# Altium footprint library SparkFun-Connectors.PCBLIB: 327 footprints (part 4 of 21)
Each footprint in its own frame and in the unit in brackets; x right, y up, seen from the top. Pads: shape width x height; smd on the part's side, far side on the other; paste and mask are expansions set on the pad; w line width, h text height; cw(c..) or ccw(c..) is an arc to the next point about the centre after c.
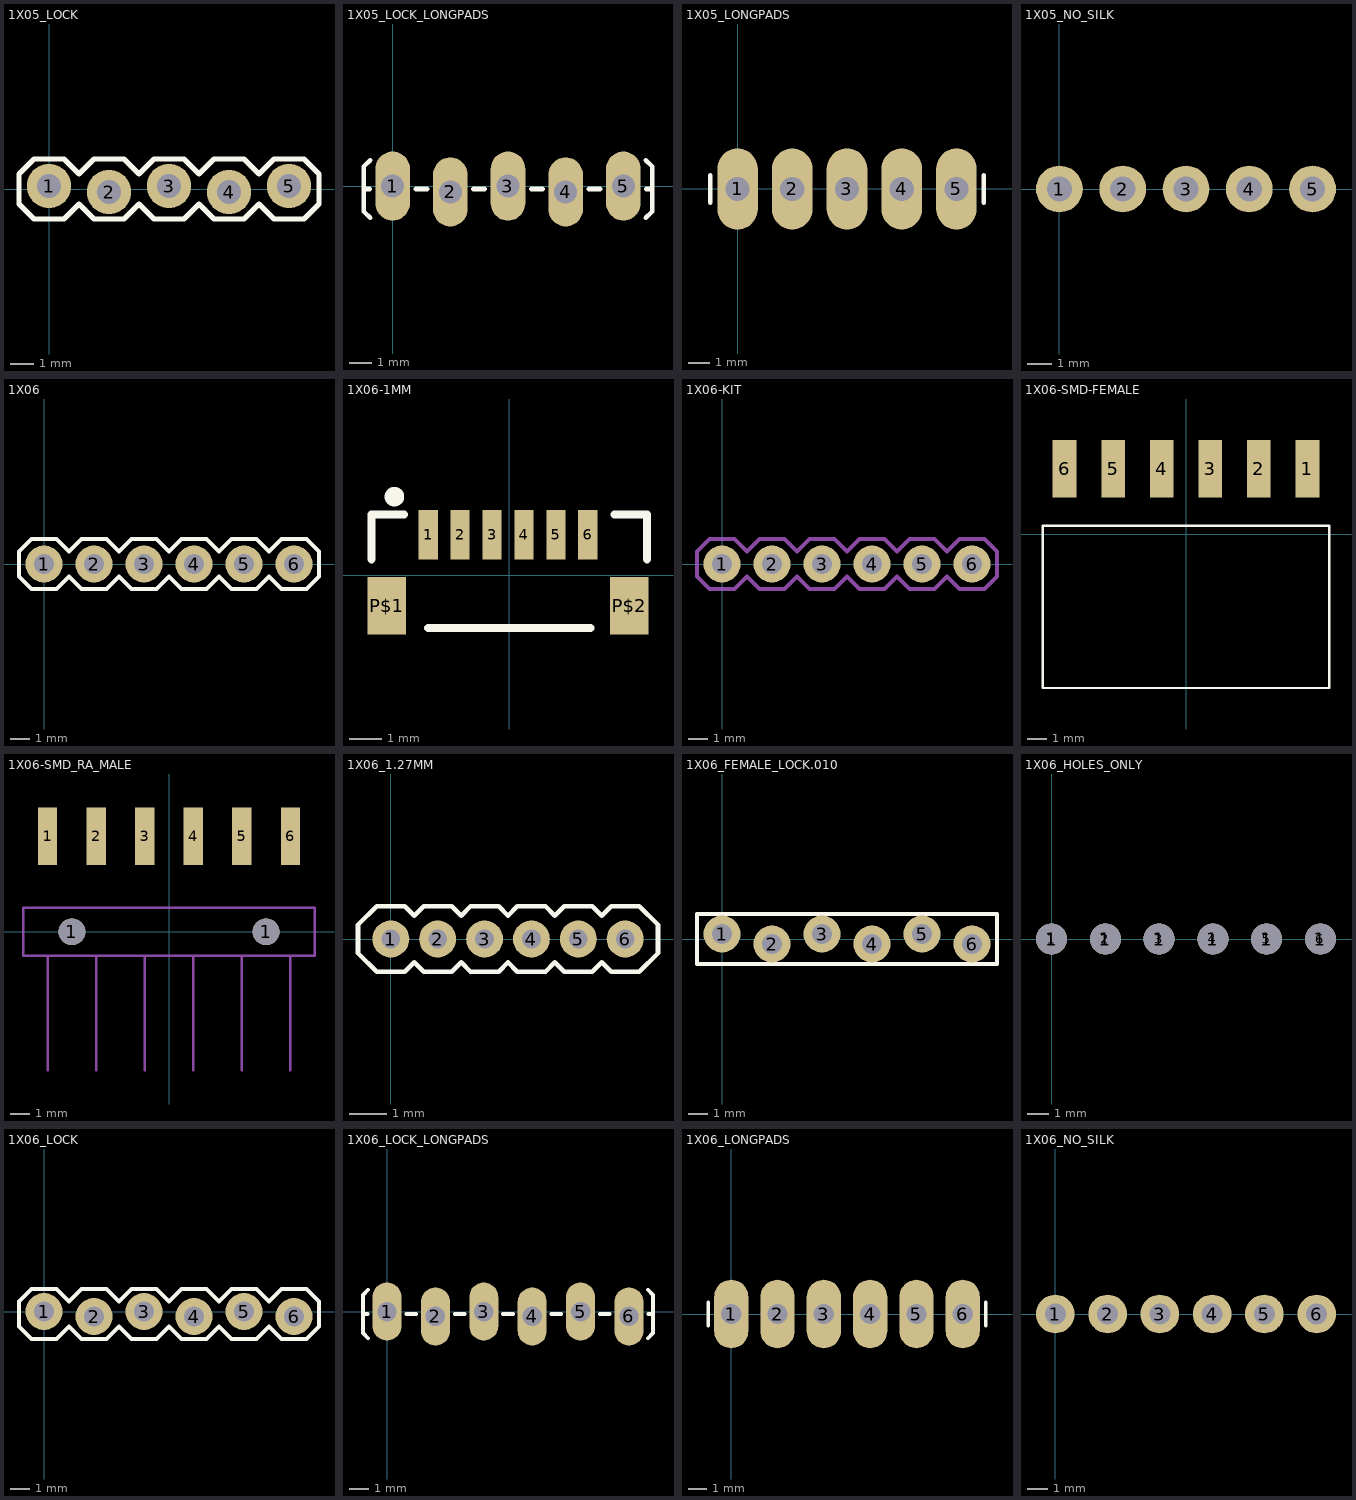
[diagram p3: the footprints below, top view; thin cyan lines are the x and y axes]

## 1X05_LOCK [mil]
pads (5):
  round 74 hole 40: 1(0,5) 2(100,-5) 3(200,5) 4(300,-5) 5(400,5)
Top Overlay:
  lines w8: -50,-25 -50,25 -25,50 25,50 50,25 75,50 125,50 150,25 175,50 225,50 250,25 275,50 325,50 350,25 375,50 425,50 450,25 450,-25 425,-50 375,-50 350,-25 325,-50 275,-50 250,-25 225,-50 175,-50 150,-25 125,-50 75,-50 50,-25 25,-50 -25,-50 -50,-25
Mechanical 16:
  rectangle: 390,-10 410,10
  rectangle: 290,-10 310,10
  rectangle: 190,-10 210,10
  rectangle: 90,-10 110,10
  rectangle: -10,-10 10,10

## 1X05_LOCK_LONGPADS [mil]
pads (5):
  oval 60x120 hole 40: 1(0,0) 2(100,-10) 3(200,0) 4(300,-10) 5(400,0)
Top Overlay:
  lines w8: -40,-5 -50,-5 ; -39,-55 -50,-44 -50,-5 ; -39,45 -50,34 -50,-5 ; 40,-5 60,-5 ; 140,-5 160,-5 ; 240,-5 260,-5 ; 340,-5 360,-5 ; 439,-55 450,-44 450,-5 ; 439,45 450,34 450,-5 ; 440,-5 450,-5
Mechanical 16:
  rectangle: -11.5,-16.5 11.5,6.5
  rectangle: 88.5,-16.5 111.5,6.5
  rectangle: 188.5,-16.5 211.5,6.5
  region: 311.5,-16.5 311.5,6.5 288.5,6.5 288.5,-16.5
  rectangle: 388.5,-16.5 411.5,6.5

## 1X05_LONGPADS [mil]
pads (5):
  oval 74x148 hole 44: 1(0,0) 2(100,0) 3(200,0) 4(300,0) 5(400,0)
Top Overlay:
  lines w8: -50,-25 -50,25 ; 450,-25 450,25
Mechanical 16:
  rectangle: 390,-10 410,10
  rectangle: 290,-10 310,10
  rectangle: 190,-10 210,10
  rectangle: 90,-10 110,10
  rectangle: -10,-10 10,10

## 1X05_NO_SILK [mil]
pads (5):
  round 74 hole 40: 1(0,0) 2(100,0) 3(200,0) 4(300,0) 5(400,0)
Mechanical 16:
  rectangle: 390,-10 410,10
  rectangle: 290,-10 310,10
  rectangle: 190,-10 210,10
  rectangle: 90,-10 110,10
  rectangle: -10,-10 10,10

## 1X06 [mil]
pads (6):
  round 74 hole 40: 1(0,0) 2(100,0) 3(200,0) 4(300,0) 5(400,0) 6(500,0)
Top Overlay:
  lines w8: -50,-25 -50,25 -25,50 25,50 50,25 75,50 125,50 150,25 175,50 225,50 250,25 275,50 325,50 350,25 375,50 425,50 450,25 475,50 525,50 550,25 550,-25 525,-50 475,-50 450,-25 425,-50 375,-50 350,-25 325,-50 275,-50 250,-25 225,-50 175,-50 150,-25 125,-50 75,-50 50,-25 25,-50 -25,-50 -50,-25
Mechanical 16:
  rectangle: 490,-10 510,10
  rectangle: 390,-10 410,10
  rectangle: 290,-10 310,10
  rectangle: 190,-10 210,10
  rectangle: 90,-10 110,10
  rectangle: -10,-10 10,10

## 1X06-1MM [mm]
pads (8):
  rect 0.6x1.55 smd: 1(-2.54,1.27) 2(-1.54,1.27) 3(-0.54,1.27) 4(0.46,1.27) 5(1.46,1.27) 6(2.46,1.27)
  rect 1.2x1.8 smd: P$1(-3.84,-0.955) P$2(3.76,-0.955)
Top Overlay:
  circle w0.406: c-3.6,2.47 r0.105
  lines w0.254: -4.318,0.508 -4.318,1.905 -3.302,1.905 ; -2.54,-1.651 2.54,-1.651 ; 3.302,1.905 4.318,1.905 4.318,0.508

## 1X06-KIT [mil]
pads (6):
  round 74 hole 40: 1(0,0) 2(100,0) 3(200,0) 4(300,0) 5(400,0) 6(500,0)
Top Solder:
  region: 0,0 10,0 10,10 0,10
  region: 0,0 10,0 10,10 0,10
  region: 0,0 10,0 10,10 0,10
  region: 0,0 10,0 10,10 0,10
  region: 0,0 10,0 10,10 0,10
  region: 0,0 10,0 10,10 0,10
Bottom Solder:
  region: 0,0 10,0 10,10 0,10
  region: 0,0 10,0 10,10 0,10
  region: 0,0 10,0 10,10 0,10
  region: 0,0 10,0 10,10 0,10
  region: 0,0 10,0 10,10 0,10
  region: 0,0 10,0 10,10 0,10
Mechanical 16:
  rectangle: 490,-10 510,10
  rectangle: 390,-10 410,10
  rectangle: 290,-10 310,10
  rectangle: 190,-10 210,10
  rectangle: 90,-10 110,10
  rectangle: -10,-10 10,10
  lines w8: -50,-25 -50,25 -25,50 25,50 50,25 75,50 125,50 150,25 175,50 225,50 250,25 275,50 325,50 350,25 375,50 425,50 450,25 475,50 525,50 550,25 550,-25 525,-50 475,-50 450,-25 425,-50 375,-50 350,-25 325,-50 275,-50 250,-25 225,-50 175,-50 150,-25 125,-50 75,-50 50,-25 25,-50 -25,-50 -50,-25

## 1X06-SMD-FEMALE [mm]
pads (6):
  rect 1.25x3 smd: 1(6.35,3.425) 2(3.81,3.425) 3(1.27,3.425) 4(-1.27,3.425) 5(-3.81,3.425) 6(-6.35,3.425)
Top Overlay:
  lines w0.127: -7.5,-8.05 -7.5,0.45 7.5,0.45 7.5,-8.05 -7.5,-8.05

## 1X06-SMD_RA_MALE [mm]
pads (8):
  rect 1x3 smd: 1(-6.35,5) 2(-3.81,5) 3(-1.27,5) 4(1.27,5) 5(3.81,5) 6(6.35,5)
  round 1.4 hole 1.4: 1(-5.08,0) 1(5.08,0)
Mechanical 16:
  lines w0.127: -6.35,-7.25 -6.35,-1.25 ; -3.81,-7.25 -3.81,-1.25 ; -1.27,-7.25 -1.27,-1.25 ; 1.27,-7.25 1.27,-1.25 ; 3.81,-7.25 3.81,-1.25 ; 6.35,-7.25 6.35,-1.25 ; -6.35,-1.25 -7.62,-1.25 -7.62,1.25 7.62,1.25 7.62,-1.25 6.35,-1.25 ; -6.35,-1.25 -3.81,-1.25 ; -3.81,-1.25 -1.27,-1.25 ; -1.27,-1.25 1.27,-1.25 ; 1.27,-1.25 3.81,-1.25 ; 3.81,-1.25 6.35,-1.25

## 1X06_1.27MM [mm]
pads (6):
  round 1 hole 0.508: 1(0,0) 2(1.27,0) 3(2.54,0) 4(3.81,0) 5(5.08,0) 6(6.35,0)
Top Overlay:
  lines w0.127: -0.889,-0.381 -0.381,-0.889 0.381,-0.889 0.635,-0.635 0.889,-0.889 1.651,-0.889 1.905,-0.635 2.159,-0.889 2.921,-0.889 3.175,-0.635 3.429,-0.889 4.191,-0.889 4.445,-0.635 4.699,-0.889 5.461,-0.889 5.715,-0.635 5.969,-0.889 6.731,-0.889 7.239,-0.381 7.239,0.381 6.731,0.889 5.969,0.889 5.715,0.635 5.461,0.889 4.699,0.889 4.445,0.635 4.191,0.889 3.429,0.889 3.175,0.635 2.921,0.889 2.159,0.889 1.905,0.635 1.651,0.889 0.889,0.889 0.635,0.635 0.381,0.889 -0.381,0.889 -0.889,0.381 -0.889,-0.381

## 1X06_FEMALE_LOCK.010 [mil]
pads (6):
  round 74 hole 40: 1(0,10) 2(100,-10) 3(200,10) 4(300,-10) 5(400,10) 6(500,-10)
Top Overlay:
  lines w8: -50,-50 -50,50 550,50 550,-50 -50,-50
Mechanical 16:
  rectangle: -12.5,-7.5 12.5,7.5
  rectangle: 87.5,-7.5 112.5,7.5
  rectangle: 187.5,-7.5 212.5,7.5
  rectangle: 287.5,-7.5 312.5,7.5
  rectangle: 387.5,-7.5 412.5,7.5
  rectangle: 487.5,-7.5 512.5,7.5

## 1X06_HOLES_ONLY [mil]
pads (12):
  round 32 hole 35: 1(0,0) 2(100,0) 3(200,0) 4(300,0) 5(400,0) 6(500,0)
  round 58 hole 58: 1(0,0) 1(100,0) 1(200,0) 1(300,0) 1(400,0) 1(500,0)
Mechanical 16:
  circle w5: c0,0 r25
  circle w5: c100,0 r25
  circle w5: c200,0 r25
  circle w5: c300,0 r25
  circle w5: c400,0 r25
  circle w5: c500,0 r25

## 1X06_LOCK [mil]
pads (6):
  round 74 hole 40: 1(0,0) 2(100,-10) 3(200,0) 4(300,-10) 5(400,0) 6(500,-10)
Top Overlay:
  lines w8: -50,-30 -25,-55 25,-55 50,-30 75,-55 125,-55 150,-30 175,-55 225,-55 250,-30 275,-55 325,-55 350,-30 375,-55 425,-55 450,-30 475,-55 525,-55 550,-30 550,20 525,45 475,45 450,20 425,45 375,45 350,20 325,45 275,45 250,20 225,45 175,45 150,20 125,45 75,45 50,20 25,45 -25,45 -50,20 -50,-30
Mechanical 16:
  rectangle: -11.5,-16.5 11.5,6.5
  rectangle: 88.5,-16.5 111.5,6.5
  rectangle: 188.5,-16.5 211.5,6.5
  rectangle: 288.5,-16.5 311.5,6.5
  rectangle: 388.5,-16.5 411.5,6.5
  rectangle: 488.5,-16.5 511.5,6.5

## 1X06_LOCK_LONGPADS [mil]
pads (6):
  oval 60x120 hole 40: 1(0,0) 2(100,-10) 3(200,0) 4(300,-10) 5(400,0) 6(500,-10)
Top Overlay:
  lines w8: -40,-5 -50,-5 ; -39,-55 -50,-44 -50,-5 ; -39,45 -50,34 -50,-5 ; 40,-5 60,-5 ; 140,-5 160,-5 ; 240,-5 260,-5 ; 340,-5 360,-5 ; 440,-5 460,-5 ; 539,-55 550,-44 550,-5 ; 539,45 550,34 550,-5 ; 540,-5 550,-5
Mechanical 16:
  rectangle: -11.5,-16.5 11.5,6.5
  rectangle: 88.5,-16.5 111.5,6.5
  rectangle: 188.5,-16.5 211.5,6.5
  region: 311.5,-16.5 311.5,6.5 288.5,6.5 288.5,-16.5
  rectangle: 388.5,-16.5 411.5,6.5
  rectangle: 488.5,-16.5 511.5,6.5

## 1X06_LONGPADS [mil]
pads (6):
  oval 74x148 hole 44: 1(0,0) 2(100,0) 3(200,0) 4(300,0) 5(400,0) 6(500,0)
Top Overlay:
  lines w8: -50,-25 -50,25 ; 550,-25 550,25
Mechanical 16:
  rectangle: 490,-10 510,10
  rectangle: 390,-10 410,10
  rectangle: 290,-10 310,10
  rectangle: 190,-10 210,10
  rectangle: 90,-10 110,10
  rectangle: -10,-10 10,10

## 1X06_NO_SILK [mil]
pads (6):
  round 74 hole 40: 1(0,0) 2(100,0) 3(200,0) 4(300,0) 5(400,0) 6(500,0)
Mechanical 16:
  rectangle: 490,-10 510,10
  rectangle: 390,-10 410,10
  rectangle: 290,-10 310,10
  rectangle: 190,-10 210,10
  rectangle: 90,-10 110,10
  rectangle: -10,-10 10,10